# Altium footprint library FP-VY143-MFG.PcbLib: 1 footprints
Each footprint in its own frame and in the unit in brackets; x right, y up, seen from the top. Pads: shape width x height; smd on the part's side, far side on the other; paste and mask are expansions set on the pad; w line width, h text height; cw(c..) or ccw(c..) is an arc to the next point about the centre after c.
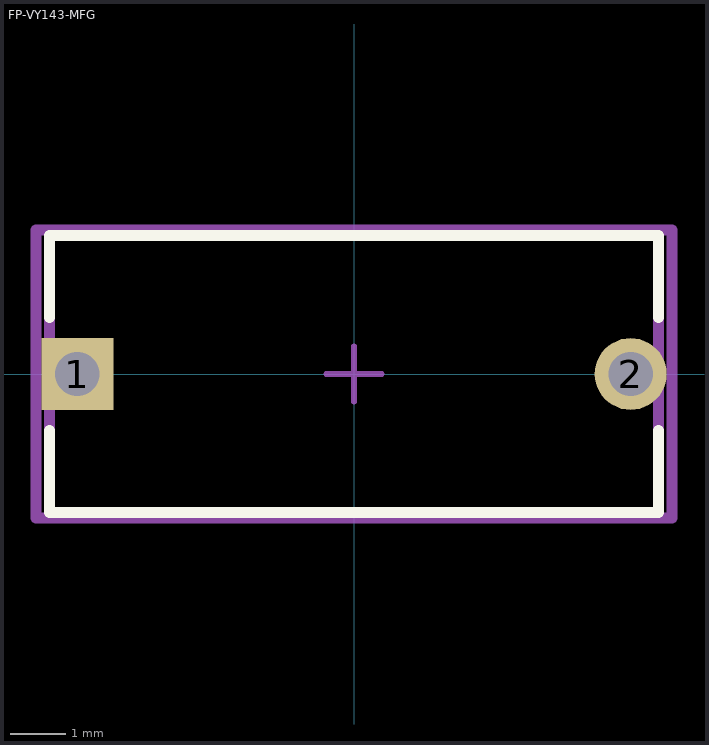
[diagram p0: the footprint, top view; thin cyan lines are the x and y axes]

## FP-VY143-MFG [mm]
pads (2):
  rect 1.3x1.3 hole 0.8 paste-2539.97 mask+0: 1(-5,0)
  round 1.3 hole 0.8 paste-2539.97 mask+0: 2(5,0)
Top Overlay:
  lines w0.2: -5.5,-1.025 -5.5,-2.5 5.5,-2.5 5.5,-1.025 ; -5.5,1.025 -5.5,2.5 5.5,2.5 5.5,1.025
Top Assembly:
  lines w0.2: -5.75,-2.6 -5.75,2.6 5.75,2.6 5.75,-2.6 -5.75,-2.6
  text ".Designator" at 0,0.188 h1
Top 3D Body:
  lines w0.2: -5.5,-2.5 -5.5,2.5 5.5,2.5 5.5,-2.5 -5.5,-2.5
Top Courtyard:
  lines w0.2: -5.75,-2.6 -5.75,2.6 5.75,2.6 5.75,-2.6 -5.75,-2.6
Top Component Center:
  lines w0.1: -0.5,0 0.5,0 ; 0,-0.5 0,0.5
3D body "Cap_Vishay_VY1222M43Y5UC63V0_eec.STEP": height 0.25, standoff 0, extent -5.75,-2.6 5.75,2.6